# Altium footprint library cincon_eclb.PcbLib: 2 footprints
Each footprint in its own frame and in the unit in brackets; x right, y up, seen from the top. Pads: shape width x height; smd on the part's side, far side on the other; paste and mask are expansions set on the pad; w line width, h text height; cw(c..) or ccw(c..) is an arc to the next point about the centre after c.
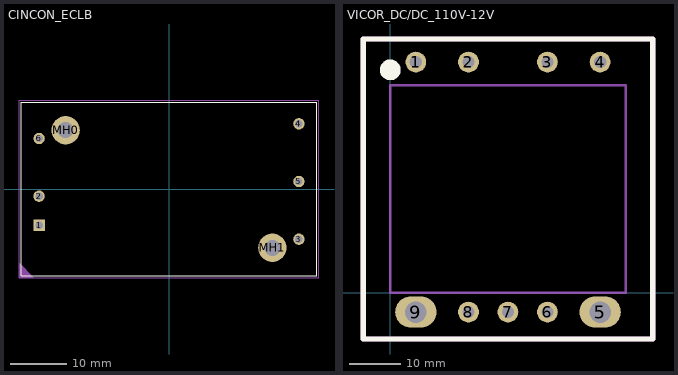
[diagram p0: the footprints below, top view; thin cyan lines are the x and y axes]

## CINCON_ECLB [mm]
height 10.2
pads (8):
  rect 2x2 hole 1.3: 1(-22.86,-6.35)
  round 2 hole 1.3: 2(-22.86,-1.27) 3(22.86,-8.839) 4(22.86,11.481) 5(22.86,1.321) 6(-22.86,8.89)
  round 5 hole 2.8: MH0(-18.2,10.35) MH1(18.2,-10.35)
Top Overlay:
  lines w0.2: -26,-15.25 -26,15.25 26,15.25 26,-15.25 -26,-15.25
Bottom Overlay:
  text "OUT+" at 25.397,-7.003 h1.02
  text "OUT-" at 25.397,3.197 h1.02
  text "ON/OFF" at -24.503,11.897 h1.02
  text "TRIM" at 25.397,13.297 h1.02
  text "+IN" at -24.403,-5.003 h1.02
  text "-IN" at -24.403,0.097 h1.02
Top Courtyard:
  region: -26.4,-15.6 -26.4,-13 -23.8,-15.6
  lines w0.2: -26.4,-15.6 -26.4,15.6 26.4,15.6 26.4,-15.6 -26.4,-15.6
Top Designator (Mech17):
  text ".Designator" at -2.15,-0.317 h1
3D body "ECLB STANDARD 2024.12.27.STEP": height 10.21, standoff -5.39, extent -26,-15.25 26,15.25

## VICOR_DC/DC_110V-12V [mm] "Long Style"
pads (9):
  round 4 hole 2.39: 1(4.95,44.51) 2(15.11,44.51) 3(30.35,44.51) 4(40.51,44.51) 6(30.35,-3.748) 7(22.73,-3.748) 8(15.11,-3.75)
  oval 8x6 hole 4.16: 5(40.51,-3.75) 9(4.95,-3.75)
Top Overlay:
  circle w2: c0,43 r1
  lines w1: -5.205,-8.955 50.675,-8.955 50.675,48.955 -5.205,48.955 -5.205,-8.955
Top 3D Body:
  lines w0.5: 0,0 45.47,0 45.47,40.04 0,40.04 0,0
Top Courtyard:
  lines w1: -5.205,-8.955 -5.205,48.955 50.675,48.955 50.675,-8.955 -5.205,-8.955
3D body: height 13.5, standoff 0, extent 0,0.04 45.47,40.04